# Altium schematic symbol library TIDA_00620.SchLib: 58 symbols (part 1 of 5)
Pins are listed as number, name and electrical type; pins without a type are passive.

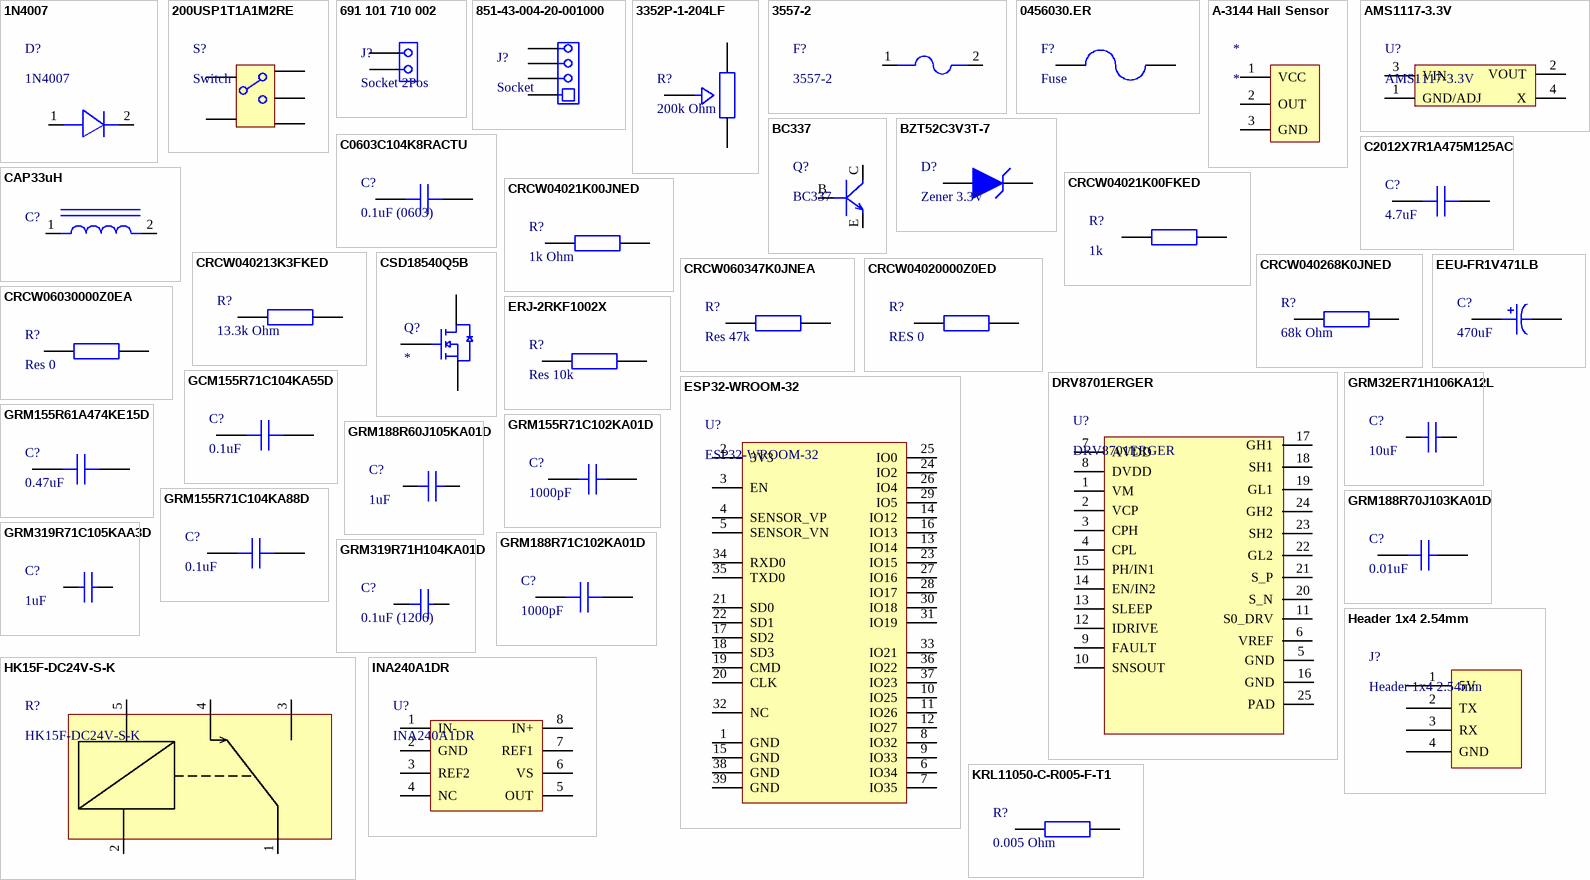
[diagram p0: symbols 1N4007 to KRL11050-C-R005-F-T1]

## 1N4007
designator D?
Rectifier Diode, 1 Phase, 1 Element, 1A, 1000V V(RRM), Silicon, DO-204AC; Manufacturer: Diotec; Manufacturer Lifecycle Status: ACTIVE; Value: 15pF; Element Configuration: Single; Forward Voltage: 1V; Max Forward Surge Current (Ifsm): 30A; Max Junction Temperature (Tj): 175°C; Max Repetitive Reverse Voltage (Vrrm): 1kV; Max Surge Current: 27A; Number of Elements: 1; Peak Reverse Current: 5µA; Polarity: Standard; Reverse Recovery Time: 1.5µs; Supplier: Mouser; Supplier Part Number: 637-1N4007; Manufacturer Part Number: 1N4007; RoHS: Compliant; Category: Rectifier Diodes; Stock: 355273; Pricing: 1=0,13, 10=0,084, 50=0,084, 100=0,057, 1000=0,036, 10000=0,019 (USD); Case/Package: Axial; Forward Current: 1A; Height: 2.8mm; Harmonized Tariff Schedule (HTS) Code: 85411000; Lifecycle Status: Production; Max Operating Temperature: 175°C; Max Output current: 1A; Min Operating Temperature: -50°C; Mounting Technology: Axial; Pins: 2; Number of Terminals: 2; Peak Non-Repetitive Surge Current: 30A; REACH SVHC: Unknown; Reverse Standoff Voltage: 1kV; Reverse Voltage: 1kV; Weight: 300mg; ComponentLink1URL: https://datasheet.octopart.com:443/1N4007-Diotec-datasheet-180572013.pdf?src-supplier=IHS; ComponentLink1Description: https://datasheet.octopart.com:443/1N4007-Diotec-datasheet-180572013.pdf?src-supplier=IHS; ComponentLink2URL: https://datasheet.octopart.com:443/1N4007-Diotec-datasheet-180725457.pdf?src-supplier=IHS; ComponentLink2Description: https://datasheet.octopart.com:443/1N4007-Diotec-datasheet-180725457.pdf?src-supplier=IHS; ComponentLink3URL: https://datasheet.octopart.com:443/1N4007-Diotec-datasheet-182232370.pdf?src-supplier=IHS; ComponentLink3Description: https://datasheet.octopart.com:443/1N4007-Diotec-datasheet-182232370.pdf?src-supplier=IHS; ComponentLink4URL: https://datasheet.octopart.com:443/1N4007-Diotec-datasheet-180570705.pdf?src-supplier=IHS; ComponentLink4Description: https://datasheet.octopart.com:443/1N4007-Diotec-datasheet-180570705.pdf?src-supplier=IHS; ComponentLink5URL: https://datasheet.octopart.com:443/1N4007-Diotec-datasheet-62346875.pdf?src-supplier=Burklin+Elektronik; ComponentLink5Description: https://datasheet.octopart.com:443/1N4007-Diotec-datasheet-62346875.pdf?src-supplier=Burklin+Elektronik; ComponentLink6URL: https://datasheet.octopart.com:443/1N4007-Diotec-datasheet-168809440.pdf?src-supplier=Diotec; ComponentLink6Description: https://datasheet.octopart.com:443/1N4007-Diotec-datasheet-168809440.pdf?src-supplier=Diotec; ComponentLink7URL: https://datasheet.octopart.com:443/1N4007-Diotec-datasheet-114842631.pdf?src-supplier=SOS+electronic; ComponentLink7Description: https://datasheet.octopart.com:443/1N4007-Diotec-datasheet-114842631.pdf?src-supplier=SOS+electronic; ComponentLink8URL: https://datasheet.octopart.com:443/1N4007-Galaxy-Semiconductor-datasheet-20771558.pdf?src-supplier=TME; ComponentLink8Description: https://datasheet.octopart.com:443/1N4007-Galaxy-Semiconductor-datasheet-20771558.pdf?src-supplier=TME; ComponentLink9URL: https://datasheet.octopart.com:443/1N4007-Diotec-datasheet-118605333.pdf?src-supplier=TME; ComponentLink9Description: https://datasheet.octopart.com:443/1N4007-Diotec-datasheet-118605333.pdf?src-supplier=TME; ComponentLink10URL: https://datasheet.octopart.com:443/1N4007-Diotec-datasheet-159114366.pdf?src-supplier=TME; ComponentLink10Description: https://datasheet.octopart.com:443/1N4007-Diotec-datasheet-159114366.pdf?src-supplier=TME; ComponentLink11URL: https://datasheet.octopart.com:443/1N4007-Diotec-datasheet-189099566.pdf?src-supplier=Master+Electronics; ComponentLink11Description: https://datasheet.octopart.com:443/1N4007-Diotec-datasheet-189099566.pdf?src-supplier=Master+Electronics
footprint 1N4007
pins: 1, 2

## 200USP1T1A1M2RE
designator S?, comment Switch
Switch Toggle ON None ON SPDT Round Lever PC Pins 20VAC 20VDC 0.4VA PC Mount; Manufacturer: E-Switch; Manufacturer Part Number: 200USP1T1A1M2RE; Actuator Length: 5.4102mm; Contact Current Rating: 20mA; Contact Resistance: 100mΩ; Contact Voltage Rating (AC): 20V; Electrical Life: 40kcycles; Illumination Type: Non-Illuminated; Insulation Resistance: 500MΩ; Number of Positions: 2; Ratings: Dust Tight, IP67, Waterproof; Sealable: IP67; Switch Function: On-On; Supplier: Mouser; Supplier Part Number: 612-200USP1T1A1M2RE; RoHS: Compliant; Category: Toggle Switches; Stock: 531; Pricing: 1=3,73, 10=3,22, 50=3,03, 100=2,63, 1000=2,47, 10000=2,38 (USD); Contact Material: Copper; Contact Plating: Gold; Height: 5.8mm; Length: 7mm; Lifecycle Status: Production; Max Current Rating: 20mA; Max Operating Temperature: 85°C; Max Voltage Rating (DC): 20V; Min Operating Temperature: -30°C; Mounting Technology: Through Hole; Packaging: Bulk; REACH SVHC: Yes; Termination: PC Pin; Throw Configuration: SPDT; Voltage Rating (AC): 20V; Voltage Rating (DC): 20V; ComponentLink1URL: https://datasheet.octopart.com:443/200USP1T1A1M2RE-E-Switch-datasheet-143500226.pdf?src-supplier=Future+Electronics; ComponentLink1Description: https://datasheet.octopart.com:443/200USP1T1A1M2RE-E-Switch-datasheet-143500226.pdf?src-supplier=Future+Electronics; ComponentLink2URL: https://datasheet.octopart.com:443/200USP1T1A1M2RE-E-Switch-datasheet-41351105.pdf?src-supplier=Future+Electronics; ComponentLink2Description: https://datasheet.octopart.com:443/200USP1T1A1M2RE-E-Switch-datasheet-41351105.pdf?src-supplier=Future+Electronics; ComponentLink3URL: https://datasheet.octopart.com:443/200USP1T1A1M2RE-E-Switch-datasheet-33408061.pdf?src-supplier=Master+Electronics; ComponentLink3Description: https://datasheet.octopart.com:443/200USP1T1A1M2RE-E-Switch-datasheet-33408061.pdf?src-supplier=Master+Electronics; ComponentLink4URL: https://datasheet.octopart.com:443/200USP1T1A1M2RE-E-Switch-datasheet-17722670.pdf?src-supplier=Factory+Futures; ComponentLink4Description: https://datasheet.octopart.com:443/200USP1T1A1M2RE-E-Switch-datasheet-17722670.pdf?src-supplier=Factory+Futures
footprint 200USP1T1A1M2RE (Switch, 7x4.5mm)
pins: 1, 3, 4, 5, 6

## 691 101 710 002
designator J?, comment Socket 2Pos
Conn Terminal Block 2 POS 5mm Solder ST Thru-Hole 16A Box; Manufacturer: Wurth Elektronik; Manufacturer Part Number: 691101710002; Number of Contacts: 2; Number of Levels: 1; Plating: Steel; Stripping Length: -7mm; Voltage: 250V; Wire/Cable Gauge: 26AWG; Wire Gauge (Min): 14AWG; Supplier: Mouser; Supplier Part Number: 710-691101710002; RoHS: Compliant; Category: Terminal Blocks; Stock: 2054; Pricing: 1=0,73, 10=0,657, 50=0,653, 100=0,653, 1000=0,653, 10000=0,653 (USD); Color: Blue; Contact Material: Brass; Contact Plating: Tin; Current: 16A; Current Rating: 16A; Height: 12.6mm; Housing Material: Nylon; Lead Pitch: 5mm; Length: 10mm; Max Operating Temperature: 105°C; Min Operating Temperature: -40°C; Mounting Technology: Through Hole; Pins: 2; Number of Positions Per Level: 2; Number of Rows: 1; Packaging: Box; Pitch: 5mm; Termination: Screw; Voltage Rating: 250V; Width: 11.2mm; Wire Gauge (Max): 26AWG; ComponentLink1URL: https://datasheet.octopart.com:443/691101710002-W%C3%BCrth-Elektronik-datasheet-117282612.pdf?src-supplier=Farnell; ComponentLink1Description: https://datasheet.octopart.com:443/691101710002-W%C3%BCrth-Elektronik-datasheet-117282612.pdf?src-supplier=Farnell; ComponentLink2URL: https://datasheet.octopart.com:443/691101710002-W%C3%BCrth-Elektronik-Midcom-datasheet-10621893.pdf?src-supplier=Farnell; ComponentLink2Description: https://datasheet.octopart.com:443/691101710002-W%C3%BCrth-Elektronik-Midcom-datasheet-10621893.pdf?src-supplier=Farnell; ComponentLink3URL: https://datasheet.octopart.com:443/691101710002-Wurth-Elektronik-datasheet-181965939.pdf?src-supplier=Wurth+Elektronik; ComponentLink3Description: https://datasheet.octopart.com:443/691101710002-Wurth-Elektronik-datasheet-181965939.pdf?src-supplier=Wurth+Elektronik; ComponentLink4URL: https://datasheet.octopart.com:443/691101710002-W%C3%BCrth-Elektronik-Midcom-datasheet-10468440.pdf?src-supplier=Newark; ComponentLink4Description: https://datasheet.octopart.com:443/691101710002-W%C3%BCrth-Elektronik-Midcom-datasheet-10468440.pdf?src-supplier=Newark; ComponentLink5URL: https://datasheet.octopart.com:443/691101710002-W%C3%BCrth-Elektronik-Midcom-datasheet-5404435.pdf?src-supplier=element14+APAC; ComponentLink5Description: https://datasheet.octopart.com:443/691101710002-W%C3%BCrth-Elektronik-Midcom-datasheet-5404435.pdf?src-supplier=element14+APAC; ComponentLink6URL: https://datasheet.octopart.com:443/691101710002-W%C3%BCrth-Elektronik-datasheet-111088173.pdf?src-supplier=RS+(Formerly+Allied+Electronics); ComponentLink6Description: https://datasheet.octopart.com:443/691101710002-W%C3%BCrth-Elektronik-datasheet-111088173.pdf?src-supplier=RS+(Formerly+Allied+Electronics)
footprint 691101710002
pins: 1, 2

## 851-43-004-20-001000
designator J?, comment Socket
Conn Socket Strip SKT 4 POS 1.27mm Solder RA Side Entry Thru-Hole; Manufacturer: Mill-Max; Manufacturer Part Number: 851-43-004-20-001000; Connector Type: Receptacle, Socket; Contact Resistance: 10mΩ; Current Rating: 3A; Dielectric Material: Polyamide; Max Voltage Rating (AC): 100V; Max Voltage Rating (DC): 150V; Number of Positions: 4; Plating Thickness: 762nm; Supplier: Mouser; Supplier Part Number: 575-8514300420001000; RoHS: Compliant; Category: Card Edge Connectors; Stock: 6128; Pricing: 1=2,6, 10=2,6, 50=2,58, 100=1,79, 1000=1,65, 10000=1,46 (USD); Case/Package: SIP; Color: Black; Contact Gender: Female; Contact Plating: Gold; Depth: 5.3mm; Housing Color: Black; Housing Material: Polychlorinated; Lead Free: Lead Free; Length: 5.46mm; Lifecycle Status: Production; Max Current Rating: 3A; Max Operating Temperature: 125°C; Min Operating Temperature: -55°C; Mounting Technology: Through Hole; Pins: 4; Number of Rows: 1; Orientation: Right Angle; Pitch: 1.27mm; REACH SVHC: No; Terminal Pitch: 1.27mm; Termination: Solder; ComponentLink1URL: https://datasheet.octopart.com:443/851-43-004-20-001000-Mill-Max-datasheet-155419451.pdf?src-supplier=IHS; ComponentLink1Description: https://datasheet.octopart.com:443/851-43-004-20-001000-Mill-Max-datasheet-155419451.pdf?src-supplier=IHS; ComponentLink2URL: https://datasheet.octopart.com:443/851-43-004-20-001000-Mill-Max-datasheet-87928065.pdf?src-supplier=element14+APAC; ComponentLink2Description: https://datasheet.octopart.com:443/851-43-004-20-001000-Mill-Max-datasheet-87928065.pdf?src-supplier=element14+APAC; ComponentLink3URL: https://datasheet.octopart.com:443/851-43-004-20-001000-Mill-Max-datasheet-21070645.pdf?src-supplier=Future+Electronics; ComponentLink3Description: https://datasheet.octopart.com:443/851-43-004-20-001000-Mill-Max-datasheet-21070645.pdf?src-supplier=Future+Electronics; ComponentLink4URL: https://datasheet.octopart.com:443/851-43-004-20-001000-Mill-Max-datasheet-26446851.pdf?src-supplier=Sager+Electronics; ComponentLink4Description: https://datasheet.octopart.com:443/851-43-004-20-001000-Mill-Max-datasheet-26446851.pdf?src-supplier=Sager+Electronics; ComponentLink5URL: https://datasheet.octopart.com:443/851-43-004-20-001000-Mill-Max-datasheet-11896331.pdf?src-supplier=Arrow+Electronics; ComponentLink5Description: https://datasheet.octopart.com:443/851-43-004-20-001000-Mill-Max-datasheet-11896331.pdf?src-supplier=Arrow+Electronics
footprint 851-43-004-20-001000
pins: 1, 2, 3, 4

## 3352P-1-204LF
designator R?, comment 200k Ohm
Res Cermet Trimmer 200K Ohm 20% 1/2W 1(Elec)/1(Mech)Turn (8.89 X 10.67 X 5.33mm) Pin Thru-Hole Bag; Manufacturer: Bourns; Manufacturer Part Number: 3352P-1-204LF; Lead Length: 4.75mm; Max Power Dissipation: 500mW; Number of Turns: 1; Value: 200kΩ; Temperature Coefficient: 100ppm/°C; Voltage Rating: 250V; Supplier: Avnet; Supplier Part Number: 3352P-1-204LF; RoHS: Compliant; Category: Variable Resistors and Potentiometers; Pricing: 500=1,54167, 1000=1,49838, 2000=1,45957, 4000=1,4282, 8000=1,4208 (USD); China RoHS: Non-Compliant; Color: Black; Composition: Cermet; Contact Plating: Tin; Diameter: 8.89mm; Height: 3.81mm; Lead Free: Lead Free; Length: 8.89mm; Lifecycle Status: Production; Max Operating Temperature: 125°C; Min Operating Temperature: -55°C; Mounting Technology: Through Hole; Number of Terminals: 3; Packaging: Bulk; Power Dissipation: 500mW; Power Rating: 500mW; REACH SVHC: Yes; Taper: Linear; Termination: Pin; Tolerance: 20%; Weight: 283.495231mg; Width: 8.89mm; Working Voltage: 250V; ComponentLink1URL: https://datasheet.octopart.com:443/3352P-1-204LF-Bourns-datasheet-182141424.pdf?src-supplier=IHS; ComponentLink1Description: https://datasheet.octopart.com:443/3352P-1-204LF-Bourns-datasheet-182141424.pdf?src-supplier=IHS; ComponentLink2URL: https://datasheet.octopart.com:443/3352P-1-204LF-Bourns-datasheet-154729576.pdf?src-supplier=Electro+Sonic; ComponentLink2Description: https://datasheet.octopart.com:443/3352P-1-204LF-Bourns-datasheet-154729576.pdf?src-supplier=Electro+Sonic; ComponentLink3URL: https://datasheet.octopart.com:443/3352P-1-204LF-Bourns-datasheet-25360171.pdf?src-supplier=Master+Electronics; ComponentLink3Description: https://datasheet.octopart.com:443/3352P-1-204LF-Bourns-datasheet-25360171.pdf?src-supplier=Master+Electronics; ComponentLink4URL: https://datasheet.octopart.com:443/3352P-1-204LF-Bourns-datasheet-3068.pdf?src-supplier=Mouser; ComponentLink4Description: https://datasheet.octopart.com:443/3352P-1-204LF-Bourns-datasheet-3068.pdf?src-supplier=Mouser; ComponentLink5URL: http://sigma.octopart.com:80/conflict_mineral_statement/Bourns-company-36.pdf?src-supplier=Compliance+Statements; ComponentLink5Description: http://sigma.octopart.com:80/conflict_mineral_statement/Bourns-company-36.pdf?src-supplier=Compliance+Statements
footprint 3352P-1-204LF
pins: 1, 2, 3

## 3557-2
designator F?
Auto blade fuse holder; insulated; for 5.2x0.64mm standard blade fuses; THT; Manufacturer: Keystone; Color: Black; Current Rating: 20A; Illumination Type: Illuminated; Material: Brass, Nylon, Tin; Number of Circuits: 1; Voltage: 500V; Supplier: Mouser; Supplier Part Number: 534-3557-2; Manufacturer Part Number: 3557-2; RoHS: Compliant; Category: Fuse Holders; Stock: 195065; Pricing: 1=1,11, 10=0,905, 50=0,81, 100=0,71, 1000=0,62, 10000=0,5 (USD); Contact Material: Brass; Contact Plating: Tin; Depth: 6.8mm; Flammability Rating: UL94 V-0; Fuse Current: 20A; Lead Free: Lead Free; Length: 19.8mm; Lifecycle Status: Production; Max Operating Temperature: 145°C; Min Operating Temperature: -50°C; Mounting Technology: PCB, Vertical; Number of Poles: 1; Orientation: Vertical; REACH SVHC: Yes; Termination: PC Pin; Voltage Rating (AC): 500V; ComponentLink1URL: https://datasheet.octopart.com:443/3557-2-Keystone-datasheet-65864754.pdf?src-supplier=Upverter; ComponentLink1Description: https://datasheet.octopart.com:443/3557-2-Keystone-datasheet-65864754.pdf?src-supplier=Upverter; ComponentLink2URL: https://datasheet.octopart.com:443/3557-2-Keystone-datasheet-15715937.pdf?src-supplier=element14+APAC; ComponentLink2Description: https://datasheet.octopart.com:443/3557-2-Keystone-datasheet-15715937.pdf?src-supplier=element14+APAC; ComponentLink3URL: https://datasheet.octopart.com:443/3557-2-Keystone-datasheet-14875920.pdf?src-supplier=element14+APAC; ComponentLink3Description: https://datasheet.octopart.com:443/3557-2-Keystone-datasheet-14875920.pdf?src-supplier=element14+APAC; ComponentLink4URL: https://datasheet.octopart.com:443/3557-2-Keystone-datasheet-96957.pdf?src-supplier=Future+Electronics; ComponentLink4Description: https://datasheet.octopart.com:443/3557-2-Keystone-datasheet-96957.pdf?src-supplier=Future+Electronics; ComponentLink5URL: https://datasheet.octopart.com:443/3557-2-Keystone-datasheet-110726872.pdf?src-supplier=Future+Electronics; ComponentLink5Description: https://datasheet.octopart.com:443/3557-2-Keystone-datasheet-110726872.pdf?src-supplier=Future+Electronics; ComponentLink6URL: https://datasheet.octopart.com:443/3557-2-Keystone-datasheet-14434305.pdf?src-supplier=Farnell; ComponentLink6Description: https://datasheet.octopart.com:443/3557-2-Keystone-datasheet-14434305.pdf?src-supplier=Farnell; ComponentLink7URL: https://datasheet.octopart.com:443/3557-2-Keystone-datasheet-137335478.pdf?src-supplier=Sager+Electronics; ComponentLink7Description: https://datasheet.octopart.com:443/3557-2-Keystone-datasheet-137335478.pdf?src-supplier=Sager+Electronics; ComponentLink8URL: https://datasheet.octopart.com:443/3557-2-Keystone-datasheet-21202850.pdf?src-supplier=Newark; ComponentLink8Description: https://datasheet.octopart.com:443/3557-2-Keystone-datasheet-21202850.pdf?src-supplier=Newark; ComponentLink9URL: https://datasheet.octopart.com:443/3557-2-Keystone-datasheet-10927198.pdf?src-supplier=RS+(Formerly+Allied+Electronics); ComponentLink9Description: https://datasheet.octopart.com:443/3557-2-Keystone-datasheet-10927198.pdf?src-supplier=RS+(Formerly+Allied+Electronics); ComponentLink10URL: https://datasheet.octopart.com:443/3557-2-Keystone-datasheet-10022419.pdf?src-supplier=RS+(Formerly+Allied+Electronics); ComponentLink10Description: https://datasheet.octopart.com:443/3557-2-Keystone-datasheet-10022419.pdf?src-supplier=RS+(Formerly+Allied+Electronics); ComponentLink11URL: https://datasheet.octopart.com:443/3557-2-Keystone-datasheet-17577438.pdf?src-supplier=TME; ComponentLink11Description: https://datasheet.octopart.com:443/3557-2-Keystone-datasheet-17577438.pdf?src-supplier=TME; ComponentLink12URL: https://datasheet.octopart.com:443/3557-2-Keystone-datasheet-188905221.pdf?src-supplier=TME; ComponentLink12Description: https://datasheet.octopart.com:443/3557-2-Keystone-datasheet-188905221.pdf?src-supplier=TME
footprint 3557-2
pins: 1, 2

## 0456030.ER
designator F?, comment Fuse
Fuse Chip 30A 125V SMD Solder Pad 10.1 X 3.12mm Ceramic T/R PSE/cULus; Manufacturer: Littelfuse; Manufacturer Part Number: 0456030.ER; Approvals: PSE, cULus; Value: 1.32mΩ; Time to Trip: 60s; Voltage Rating (DC): 32V; Supplier: Farnell; Supplier Part Number: 2688740; RoHS: Compliant; Category: Fuses; Stock: 2500; Pricing: 2500=2,55 (EUR); Body Material: Ceramic; Case/Package: SMD/SMT; China RoHS: Non-Compliant; Contact Plating: Silver; Current Rating: 30A; Depth: 3.12mm; Fuse Current: 30A; Height: 3.05mm; Housing Material: Ceramic; Lead Free: Lead Free; Length: 10.08mm; Lifecycle Status: Production; Max Operating Temperature: 125°C; Min Operating Temperature: -55°C; Mounting Technology: Surface Mount; Pins: 2; Packaging: Cut Tape; Radiation Hardening: No; REACH SVHC: No; Termination: SMD/SMT; Voltage Rating: 125V; Voltage Rating (AC): 125V; Width: 4.445mm; Working Voltage: 125V; ComponentLink1URL: https://datasheet.octopart.com:443/0456030.ER-Littelfuse-datasheet-180605949.pdf?src-supplier=IHS; ComponentLink1Description: https://datasheet.octopart.com:443/0456030.ER-Littelfuse-datasheet-180605949.pdf?src-supplier=IHS; ComponentLink2URL: https://datasheet.octopart.com:443/0456030.ER-Littelfuse-datasheet-138804099.pdf?src-supplier=ODG+(Origin+Data+Global); ComponentLink2Description: https://datasheet.octopart.com:443/0456030.ER-Littelfuse-datasheet-138804099.pdf?src-supplier=ODG+(Origin+Data+Global); ComponentLink3URL: https://datasheet.octopart.com:443/0456030.ER-Littelfuse-datasheet-10337701.pdf?src-supplier=Farnell; ComponentLink3Description: https://datasheet.octopart.com:443/0456030.ER-Littelfuse-datasheet-10337701.pdf?src-supplier=Farnell; ComponentLink4URL: https://datasheet.octopart.com:443/0456030.ER-Littelfuse-datasheet-8325777.pdf?src-supplier=Farnell; ComponentLink4Description: https://datasheet.octopart.com:443/0456030.ER-Littelfuse-datasheet-8325777.pdf?src-supplier=Farnell; ComponentLink5URL: https://datasheet.octopart.com:443/0456030.ER-Littelfuse-datasheet-81917029.pdf?src-supplier=Farnell; ComponentLink5Description: https://datasheet.octopart.com:443/0456030.ER-Littelfuse-datasheet-81917029.pdf?src-supplier=Farnell; ComponentLink6URL: https://datasheet.octopart.com:443/0456030.ER-Littelfuse-datasheet-32023458.pdf?src-supplier=Newark; ComponentLink6Description: https://datasheet.octopart.com:443/0456030.ER-Littelfuse-datasheet-32023458.pdf?src-supplier=Newark; ComponentLink7URL: https://datasheet.octopart.com:443/0456030.ER-Littelfuse-datasheet-8729545.pdf?src-supplier=element14+APAC; ComponentLink7Description: https://datasheet.octopart.com:443/0456030.ER-Littelfuse-datasheet-8729545.pdf?src-supplier=element14+APAC; ComponentLink8URL: https://datasheet.octopart.com:443/0456030.ER-Littelfuse-datasheet-5388488.pdf?src-supplier=element14+APAC; ComponentLink8Description: https://datasheet.octopart.com:443/0456030.ER-Littelfuse-datasheet-5388488.pdf?src-supplier=element14+APAC; ComponentLink9URL: https://datasheet.octopart.com:443/0456030.ER-Littelfuse-datasheet-183003502.pdf?src-supplier=Sager+Electronics; ComponentLink9Description: https://datasheet.octopart.com:443/0456030.ER-Littelfuse-datasheet-183003502.pdf?src-supplier=Sager+Electronics; ComponentLink10URL: https://datasheet.octopart.com:443/0456030.ER-Littelfuse-datasheet-184785029.pdf?src-supplier=Sager+Electronics; ComponentLink10Description: https://datasheet.octopart.com:443/0456030.ER-Littelfuse-datasheet-184785029.pdf?src-supplier=Sager+Electronics; ComponentLink11URL: https://datasheet.octopart.com:443/0456030.ER-Littelfuse-datasheet-178296269.pdf?src-supplier=Burklin+Elektronik; ComponentLink11Description: https://datasheet.octopart.com:443/0456030.ER-Littelfuse-datasheet-178296269.pdf?src-supplier=Burklin+Elektronik; ComponentLink12URL: https://datasheet.octopart.com:443/0456030.ER-Littelfuse-datasheet-170674128.pdf?src-supplier=Future+Electronics; ComponentLink12Description: https://datasheet.octopart.com:443/0456030.ER-Littelfuse-datasheet-170674128.pdf?src-supplier=Future+Electronics; ComponentLink13URL: https://datasheet.octopart.com:443/0456030.ER-Littelfuse-datasheet-43099236.pdf?src-supplier=RS+(Formerly+Allied+Electronics); ComponentLink13Description: https://datasheet.octopart.com:443/0456030.ER-Littelfuse-datasheet-43099236.pdf?src-supplier=RS+(Formerly+Allied+Electronics)
footprint 10.1x3.12mm - 0456030.ER
pins: 1, 2

## A-3144 Hall Sensor
designator *
footprint A-3144 (HALL SENSOR)
pins: 1 VCC, 2 OUT, 3 GND

## AMS1117-3.3V
designator U?
footprint SOT223 (SOT223, 4-Leads, Body 6,50x7,00mm (avg), Pitch 2,29mm, IPC Medium Density)
pins: 1 GND/ADJ, 2 VOUT, 3 VIN, 4 X

## BC337
designator Q?
Small Signal Bipolar Transistor, 0.8A I(C), 45V V(BR)CEO, 1-Element, NPN, Silicon, TO-92; Manufacturer: onsemi; Manufacturer Part Number: BC33725TA; Manufacturer Lifecycle Status: ACTIVE; Collector Emitter Saturation Voltage: 700mV; Element Configuration: Single; Emitter Base Voltage (VEBO): 5V; Frequency: 100MHz; hFE Min: 160; Max Collector Current: 800mA; Max Junction Temperature (Tj): 150°C; Max Power Dissipation: 625mW; Number of Elements: 1; Supplier: Future Electronics; Supplier Part Number: 5194590; RoHS: Compliant; Category: BJTs; Stock: 472000; Pricing: 2000=0,0373, 6000=0,0363, 10000=0,0359, 20000=0,0353, 40000=0,0344 (USD); Case/Package: TO-92; China RoHS: Compliant; Collector Emitter Breakdown Voltage: 45V; Collector Emitter Voltage (VCEO): 45V; Contact Plating: Tin; Gain Bandwidth Product: 100MHz; Height: 8.77mm; Lead Free: Lead Free; Length: 5.2mm; Lifecycle Status: Production; Max Breakdown Voltage: 45V; Clock Frequency: 100MHz; Max Operating Temperature: 150°C; Min Operating Temperature: -55°C; Mounting Technology: Through Hole; Pins: 3; Number of Terminals: 3; Polarity: NPN; Power Dissipation: 625mW; Radiation Hardening: No; REACH SVHC: Yes; Schedule B: 8541210080, 8541210080|8541210080, 8541210080|8541210080|8541210080, 8541210080|8541210080|8541210080|8541210080; Transition Frequency: 100MHz; Weight: 240mg; Width: 4.19mm; ComponentLink1URL: https://datasheet.octopart.com:443/BC33725TA-ON-Semiconductor-datasheet-137315713.pdf?src-supplier=JRH+Electronics; ComponentLink1Description: https://datasheet.octopart.com:443/BC33725TA-ON-Semiconductor-datasheet-137315713.pdf?src-supplier=JRH+Electronics; ComponentLink2URL: https://datasheet.octopart.com:443/BC33725TA-onsemi-datasheet-180957929.pdf?src-supplier=IHS; ComponentLink2Description: https://datasheet.octopart.com:443/BC33725TA-onsemi-datasheet-180957929.pdf?src-supplier=IHS; ComponentLink3URL: https://datasheet.octopart.com:443/BC33725TA-Fairchild-Semiconductor-datasheet-49270557.pdf?src-supplier=IHS; ComponentLink3Description: https://datasheet.octopart.com:443/BC33725TA-Fairchild-Semiconductor-datasheet-49270557.pdf?src-supplier=IHS; ComponentLink4URL: https://datasheet.octopart.com:443/BC33725TA-ON-Semiconductor-datasheet-13072.pdf?src-supplier=Fairchild+Semiconductor; ComponentLink4Description: https://datasheet.octopart.com:443/BC33725TA-ON-Semiconductor-datasheet-13072.pdf?src-supplier=Fairchild+Semiconductor; ComponentLink5URL: https://datasheet.octopart.com:443/BC33725TA-Fairchild-Semiconductor-datasheet-10379962.pdf?src-supplier=Fairchild+Semiconductor; ComponentLink5Description: https://datasheet.octopart.com:443/BC33725TA-Fairchild-Semiconductor-datasheet-10379962.pdf?src-supplier=Fairchild+Semiconductor; ComponentLink6URL: https://sigma.octopart.com:443/33035202/technical_drawing/Fairchild-Semiconductor-BC33725TA.pdf?src-supplier=Fairchild+Semiconductor; ComponentLink6Description: https://sigma.octopart.com:443/33035202/technical_drawing/Fairchild-Semiconductor-BC33725TA.pdf?src-supplier=Fairchild+Semiconductor; ComponentLink7URL: https://sigma.octopart.com:443/17343939/technical_drawing/Fairchild-Semiconductor-BC33725TA.pdf?src-supplier=Fairchild+Semiconductor; ComponentLink7Description: https://sigma.octopart.com:443/17343939/technical_drawing/Fairchild-Semiconductor-BC33725TA.pdf?src-supplier=Fairchild+Semiconductor; ComponentLink8URL: https://datasheet.octopart.com:443/BC33725TA-ON-Semiconductor-datasheet-8330525.pdf?src-supplier=onsemi; ComponentLink8Description: https://datasheet.octopart.com:443/BC33725TA-ON-Semiconductor-datasheet-8330525.pdf?src-supplier=onsemi; ComponentLink9URL: https://datasheet.octopart.com:443/BC33725TA-ON-Semiconductor-datasheet-498802.pdf?src-supplier=onsemi; ComponentLink9Description: https://datasheet.octopart.com:443/BC33725TA-ON-Semiconductor-datasheet-498802.pdf?src-supplier=onsemi; ComponentLink10URL: https://datasheet.octopart.com:443/BC33725TA-ON-Semiconductor-datasheet-86688491.pdf?src-supplier=onsemi; ComponentLink10Description: https://datasheet.octopart.com:443/BC33725TA-ON-Semiconductor-datasheet-86688491.pdf?src-supplier=onsemi; ComponentLink11URL: https://datasheet.octopart.com:443/BC33725TA-ON-Semiconductor-datasheet-94100688.pdf?src-supplier=element14+APAC; ComponentLink11Description: https://datasheet.octopart.com:443/BC33725TA-ON-Semiconductor-datasheet-94100688.pdf?src-supplier=element14+APAC; ComponentLink12URL: https://datasheet.octopart.com:443/BC33725TA-onsemi-datasheet-34433467.pdf?src-supplier=Farnell; ComponentLink12Description: https://datasheet.octopart.com:443/BC33725TA-onsemi-datasheet-34433467.pdf?src-supplier=Farnell; ComponentLink13URL: https://datasheet.octopart.com:443/BC33725TA-ON-Semiconductor-datasheet-86684068.pdf?src-supplier=Farnell; ComponentLink13Description: https://datasheet.octopart.com:443/BC33725TA-ON-Semiconductor-datasheet-86684068.pdf?src-supplier=Farnell; ComponentLink14URL: https://datasheet.octopart.com:443/BC33725TA-Fairchild-Semiconductor-datasheet-38327704.pdf?src-supplier=Farnell; ComponentLink14Description: https://datasheet.octopart.com:443/BC33725TA-Fairchild-Semiconductor-datasheet-38327704.pdf?src-supplier=Farnell; ComponentLink15URL: https://datasheet.octopart.com:443/BC33725TA-Fairchild-Semiconductor-datasheet-41473365.pdf?src-supplier=Farnell; ComponentLink15Description: https://datasheet.octopart.com:443/BC33725TA-Fairchild-Semiconductor-datasheet-41473365.pdf?src-supplier=Farnell; ComponentLink16URL: https://datasheet.octopart.com:443/BC33725TA-Fairchild-datasheet-7627855.pdf?src-supplier=Jameco; ComponentLink16Description: https://datasheet.octopart.com:443/BC33725TA-Fairchild-datasheet-7627855.pdf?src-supplier=Jameco; ComponentLink17URL: https://datasheet.octopart.com:443/BC33725TA-ON-Semiconductor-datasheet-147640423.pdf?src-supplier=Jameco; ComponentLink17Description: https://datasheet.octopart.com:443/BC33725TA-ON-Semiconductor-datasheet-147640423.pdf?src-supplier=Jameco; ComponentLink18URL: https://datasheet.octopart.com:443/BC33725TA-ON-Semiconductor-datasheet-44607075.pdf?src-supplier=Newark; ComponentLink18Description: https://datasheet.octopart.com:443/BC33725TA-ON-Semiconductor-datasheet-44607075.pdf?src-supplier=Newark; ComponentLink19URL: https://datasheet.octopart.com:443/BC33725TA-Fairchild-Semiconductor-datasheet-33192856.pdf?src-supplier=Newark; ComponentLink19Description: https://datasheet.octopart.com:443/BC33725TA-Fairchild-Semiconductor-datasheet-33192856.pdf?src-supplier=Newark; ComponentLink20URL: https://datasheet.octopart.com:443/BC33725TA-ON-Semiconductor-datasheet-81454738.pdf?src-supplier=TME; ComponentLink20Description: https://datasheet.octopart.com:443/BC33725TA-ON-Semiconductor-datasheet-81454738.pdf?src-supplier=TME; ComponentLink21URL: http://sigma.octopart.com:80/150605282/rohs_statement/ON-Semiconductor-BC33725TA.pdf?src-supplier=Compliance+Statements; ComponentLink21Description: http://sigma.octopart.com:80/150605282/rohs_statement/ON-Semiconductor-BC33725TA.pdf?src-supplier=Compliance+Statements; ComponentLink22URL: http://sigma.octopart.com:80/23426707/materials_sheet/Fairchild-Semiconductor-BC33725TA.pdf?src-supplier=Compliance+Statements; ComponentLink22Description: http://sigma.octopart.com:80/23426707/materials_sheet/Fairchild-Semiconductor-BC33725TA.pdf?src-supplier=Compliance+Statements; ComponentLink23URL: http://sigma.octopart.com:80/23426706/rohs_statement/Fairchild-Semiconductor-BC33725TA.pdf?src-supplier=Compliance+Statements; ComponentLink23Description: http://sigma.octopart.com:80/23426706/rohs_statement/Fairchild-Semiconductor-BC33725TA.pdf?src-supplier=Compliance+Statements; ComponentLink24URL: http://sigma.octopart.com:80/33052040/reach_statement/Fairchild-Semiconductor-BC33725TA.pdf?src-supplier=Compliance+Statements; ComponentLink24Description: http://sigma.octopart.com:80/33052040/reach_statement/Fairchild-Semiconductor-BC33725TA.pdf?src-supplier=Compliance+Statements; ComponentLink25URL: http://sigma.octopart.com:80/33052160/materials_sheet/Fairchild-Semiconductor-BC33725TA.pdf?src-supplier=Compliance+Statements; ComponentLink25Description: http://sigma.octopart.com:80/33052160/materials_sheet/Fairchild-Semiconductor-BC33725TA.pdf?src-supplier=Compliance+Statements; ComponentLink26URL: http://sigma.octopart.com:80/reach_statement/ON-Semiconductor-company-79.pdf?src-supplier=Compliance+Statements; ComponentLink26Description: http://sigma.octopart.com:80/reach_statement/ON-Semiconductor-company-79.pdf?src-supplier=Compliance+Statements; ComponentLink27URL: http://sigma.octopart.com:80/rohs_statement/Fairchild-Semiconductor-company-11.pdf?src-supplier=Compliance+Statements; ComponentLink27Description: http://sigma.octopart.com:80/rohs_statement/Fairchild-Semiconductor-company-11.pdf?src-supplier=Compliance+Statements; ComponentLink28URL: http://sigma.octopart.com:80/rohs_statement/Fairchild-Semiconductor-company-10.pdf?src-supplier=Compliance+Statements; ComponentLink28Description: http://sigma.octopart.com:80/rohs_statement/Fairchild-Semiconductor-company-10.pdf?src-supplier=Compliance+Statements; ComponentLink29URL: http://sigma.octopart.com:80/reach_statement/Fairchild-Semiconductor-company-9.pdf?src-supplier=Compliance+Statements; ComponentLink29Description: http://sigma.octopart.com:80/reach_statement/Fairchild-Semiconductor-company-9.pdf?src-supplier=Compliance+Statements; ComponentLink30URL: https://octopart.com:443/opatz8j6/c1?t=7tgkbhl7hNOlxvHAamqH0m269kpp9v6sGlRTOBaT6YYzEhLHvcWBeIWNMqzhK9FPZgl-AG_-qkbktRXwtanp--AFB2z5Yej5linCCK3okaZeH_qn_zjvbhtIYiaoQv1yV6MP79n_gTQ_S-gxxdk2XvXb2fzp_nw7FvZqj61EeKKpPXvGZsG0byaEmYTsEd1mEcWjFDLHcl11PSUDlHBHUFVg-qAVcNcD5KYPtuqcJCbrOVxmpG0ioK0vvHo8n0fScx4vCZ95bgvxAMgfLRrMo0yLNQdqFrCJfXJyZvuU3um222Lv7_8iKj3zKng7ZoQ4rVRgSg-F-_O3BVcDToBjHjyBtNGyDINbgkTQ&src-supplier=Compliance+Statements; ComponentLink30Description: https://octopart.com:443/opatz8j6/c1?t=7tgkbhl7hNOlxvHAamqH0m269kpp9v6sGlRTOBaT6YYzEhLHvcWBeIWNMqzhK9FPZgl-AG_-qkbktRXwtanp--AFB2z5Yej5linCCK3okaZeH_qn_zjvbhtIYiaoQv1yV6MP79n_gTQ_S-gxxdk2XvXb2fzp_nw7FvZqj61EeKKpPXvGZsG0byaEmYTsEd1mEcWjFDLHcl11PSUDlHBHUFVg-qAVcNcD5KYPtuqcJCbrOVxmpG0ioK0vvHo8n0fScx4vCZ95bgvxAMgfLRrMo0yLNQdqFrCJfXJyZvuU3um222Lv7_8iKj3zKng7ZoQ4rVRgSg-F-_O3BVcDToBjHjyBtNGyDINbgkTQ&src-supplier=Compliance+Statements; ComponentLink31URL: https://octopart.com:443/opatz8j6/c1?t=DgGuX_kL8AP-LdQEoY-gRP9PTloT94hhxKM2YdEaxOl8FGHS_zv2ZkydayasGw1YmBBlMCZlY4bKoiBWyvBUddEqcsTPjFVS2QZtk4GQF5ptMFUWJvApi1htCeSvZOrTKl36iUEfCU0GqwGxGi9_A0YgUCGuZ0ZYZwhfOZhc7Kcd2Va_E4xClJwhY6OdxEPu5b3YSjBTXFRfMrx_dG8gt7cYIFOv9W2YgN8xS8H7aXbrYgqsfjWK5lQCwPEC9eVHzi-q7-kgeRzPeyerPeCZvjlm4uBx7RbfE1Uw2dPaVjLg4Cx5JClPeS0fkHV_FO__Yf0RFH6_UrQyzMOPbf_qnsvkFbfXsTPLRL8T2g&src-supplier=Compliance+Statements; ComponentLink31Description: https://octopart.com:443/opatz8j6/c1?t=DgGuX_kL8AP-LdQEoY-gRP9PTloT94hhxKM2YdEaxOl8FGHS_zv2ZkydayasGw1YmBBlMCZlY4bKoiBWyvBUddEqcsTPjFVS2QZtk4GQF5ptMFUWJvApi1htCeSvZOrTKl36iUEfCU0GqwGxGi9_A0YgUCGuZ0ZYZwhfOZhc7Kcd2Va_E4xClJwhY6OdxEPu5b3YSjBTXFRfMrx_dG8gt7cYIFOv9W2YgN8xS8H7aXbrYgqsfjWK5lQCwPEC9eVHzi-q7-kgeRzPeyerPeCZvjlm4uBx7RbfE1Uw2dPaVjLg4Cx5JClPeS0fkHV_FO__Yf0RFH6_UrQyzMOPbf_qnsvkFbfXsTPLRL8T2g&src-supplier=Compliance+Statements
footprint BC337
pins: B, C, E

## BZT52C3V3T-7
designator D?, comment Zener 3.3V
BZT52C3V3T Series 300 mW 3.3 V 10 mA Surface Mount Zener Diode - SOD-523; Manufacturer: Diodes Inc.; Manufacturer Part Number: BZT52C3V3T-7; Element Configuration: Single; ESD Protection: No; Forward Voltage: 900mV; Impedance: 95Ω; Max Power Dissipation: 300mW; Max Reverse Leakage Current: 5µA; Number of Elements: 1; Polarity: Unidirectional; Reverse Standoff Voltage: 1V; Test Current: 5mA; Tolerance: 6%; Voltage Tolerance: 6.06%; Supplier: Future Electronics; Supplier Part Number: 4029532; RoHS: Compliant; Category: Zener Diodes; Stock: 3000; Pricing: 3000=0,0365, 9000=0,0356, 12000=0,0354, 30000=0,0346, 45000=0,0339 (USD); China RoHS: Compliant; Contact Plating: Tin; Height: 700µm; Lead Free: Lead Free; Length: 1.3mm; Lifecycle Status: Production; Max Operating Temperature: 150°C; Min Operating Temperature: -65°C; Mounting Technology: Surface Mount; Pins: 2; Number of Terminals: 2; Packaging: Cut Tape; Peak Reverse Current: 5µA; Power Rating: 300mW; REACH SVHC: Yes; Reference Voltage: 3.3V; Schedule B: 8541100050, 8541100050|8541100050|8541100050|8541100050|8541100050; Termination: SMD/SMT; Weight: 992.233309µg; Width: 900µm; Working Voltage: 3.3V; Zener Current: 5mA; Zener Voltage: 3.3V; ComponentLink1URL: https://datasheet.octopart.com:443/BZT52C3V3T-7-Diodes-Inc.-datasheet-101745785.pdf?src-supplier=Farnell; ComponentLink1Description: https://datasheet.octopart.com:443/BZT52C3V3T-7-Diodes-Inc.-datasheet-101745785.pdf?src-supplier=Farnell; ComponentLink2URL: https://datasheet.octopart.com:443/BZT52C3V3T-7-Diodes-Inc.-datasheet-10839642.pdf?src-supplier=RS+(Formerly+Allied+Electronics); ComponentLink2Description: https://datasheet.octopart.com:443/BZT52C3V3T-7-Diodes-Inc.-datasheet-10839642.pdf?src-supplier=RS+(Formerly+Allied+Electronics); ComponentLink3URL: https://datasheet.octopart.com:443/BZT52C3V3T-7-Diodes-Inc.-datasheet-8327885.pdf?src-supplier=Future+Electronics; ComponentLink3Description: https://datasheet.octopart.com:443/BZT52C3V3T-7-Diodes-Inc.-datasheet-8327885.pdf?src-supplier=Future+Electronics; ComponentLink4URL: https://datasheet.octopart.com:443/BZT52C3V3T-7-Diodes-Inc.-datasheet-12513818.pdf?src-supplier=Future+Electronics; ComponentLink4Description: https://datasheet.octopart.com:443/BZT52C3V3T-7-Diodes-Inc.-datasheet-12513818.pdf?src-supplier=Future+Electronics; ComponentLink5URL: https://datasheet.octopart.com:443/BZT52C3V3T-7-Diodes-Inc.-datasheet-10941054.pdf?src-supplier=Future+Electronics; ComponentLink5Description: https://datasheet.octopart.com:443/BZT52C3V3T-7-Diodes-Inc.-datasheet-10941054.pdf?src-supplier=Future+Electronics; ComponentLink6URL: https://datasheet.octopart.com:443/BZT52C3V3T-7-Diodes-Inc.-datasheet-10839781.pdf?src-supplier=Future+Electronics; ComponentLink6Description: https://datasheet.octopart.com:443/BZT52C3V3T-7-Diodes-Inc.-datasheet-10839781.pdf?src-supplier=Future+Electronics; ComponentLink7URL: https://datasheet.octopart.com:443/BZT52C3V3T-7-Diodes-Inc.-datasheet-10405015.pdf?src-supplier=Future+Electronics; ComponentLink7Description: https://datasheet.octopart.com:443/BZT52C3V3T-7-Diodes-Inc.-datasheet-10405015.pdf?src-supplier=Future+Electronics; ComponentLink8URL: https://datasheet.octopart.com:443/BZT52C3V3T-7-Diodes-Inc.-datasheet-5318325.pdf?src-supplier=Future+Electronics; ComponentLink8Description: https://datasheet.octopart.com:443/BZT52C3V3T-7-Diodes-Inc.-datasheet-5318325.pdf?src-supplier=Future+Electronics; ComponentLink9URL: https://datasheet.octopart.com:443/BZT52C3V3T-7-Diodes-Inc.-datasheet-78715741.pdf?src-supplier=Newark; ComponentLink9Description: https://datasheet.octopart.com:443/BZT52C3V3T-7-Diodes-Inc.-datasheet-78715741.pdf?src-supplier=Newark; ComponentLink10URL: https://datasheet.octopart.com:443/BZT52C3V3T-7-Diodes-Inc.-datasheet-102520276.pdf?src-supplier=TME; ComponentLink10Description: https://datasheet.octopart.com:443/BZT52C3V3T-7-Diodes-Inc.-datasheet-102520276.pdf?src-supplier=TME; ComponentLink11URL: https://sigma.octopart.com:443/138896155/technical_drawing/Diodes-Inc.-BZT52C3V3T-7.pdf?src-supplier=Diodes+Inc+SCT; ComponentLink11Description: https://sigma.octopart.com:443/138896155/technical_drawing/Diodes-Inc.-BZT52C3V3T-7.pdf?src-supplier=Diodes+Inc+SCT; ComponentLink12URL: https://datasheet.octopart.com:443/BZT52C3V3T-7-Diodes-Inc.-datasheet-14051187.pdf?src-supplier=iiiC; ComponentLink12Description: https://datasheet.octopart.com:443/BZT52C3V3T-7-Diodes-Inc.-datasheet-14051187.pdf?src-supplier=iiiC; ComponentLink13URL: http://sigma.octopart.com:80/15616908/materials_sheet/Diodes-Inc.-BZT52C3V3T-7.pdf?src-supplier=Compliance+Statements; ComponentLink13Description: http://sigma.octopart.com:80/15616908/materials_sheet/Diodes-Inc.-BZT52C3V3T-7.pdf?src-supplier=Compliance+Statements
footprint SOD-523 - BZT52C3V3T-7
pins: A, C

## C0603C104K8RACTU
designator C?, comment 0.1uF (0603)
100nF ±10% 10V X7R 0603 Multilayer Ceramic Capacitors MLCC - SMD/SMT RoHS; Manufacturer: KEMET; Manufacturer Part Number: C0603C104K8RACTU; Dissipation Factor: 5%; Temperature Coefficient: 30ppm/°C; Designed: Emre; Supplier: Farnell; Supplier Part Number: 2665559; RoHS: Compliant; Category: Ceramic Capacitors; Stock: 68000; Pricing: 4000=0,0182 (EUR); Value: 100nF; Case/Package: 0603; Case Code (Imperial): 0603; China RoHS: Compliant; Contact Plating: Tin; Depth: 800µm; Dielectric: X7R; Dielectric Material: Ceramic; Height: 800µm; Lead Free: Lead Free; Lead Pitch: 700µm; Length: 1.6mm; Lifecycle Status: Production; Material: Ceramic; Max Operating Temperature: 125°C; Min Operating Temperature: -55°C; Mounting Technology: Surface Mount; Pins: 2; Number of Terminals: 2; Packaging: Tape & Reel; Radiation Hardening: No; REACH SVHC: Yes; Schedule B: 8532240020, 8532240020|8532240020, 8532240020|8532240020|8532240020, 8532240020|8532240020|8532240020|8532240020; Termination: SMD/SMT; Thickness: 863.6µm; Tolerance: 10%; Voltage: 10V; Voltage Rating: 10V; Voltage Rating (DC): 10V; Width: 800µm; ComponentLink1URL: https://datasheet.octopart.com:443/C0603C104K8RAC7867-KEMET-datasheet-179096319.pdf?src-supplier=IHS; ComponentLink1Description: https://datasheet.octopart.com:443/C0603C104K8RAC7867-KEMET-datasheet-179096319.pdf?src-supplier=IHS; ComponentLink2URL: https://datasheet.octopart.com:443/C0603C104K8RACTU-KEMET-datasheet-178445679.pdf?src-supplier=IHS; ComponentLink2Description: https://datasheet.octopart.com:443/C0603C104K8RACTU-KEMET-datasheet-178445679.pdf?src-supplier=IHS; ComponentLink3URL: https://datasheet.octopart.com:443/C0603C104K8RACTU-KEMET-datasheet-137357759.pdf?src-supplier=Farnell; ComponentLink3Description: https://datasheet.octopart.com:443/C0603C104K8RACTU-KEMET-datasheet-137357759.pdf?src-supplier=Farnell; ComponentLink4URL: https://datasheet.octopart.com:443/C0603C104K8RACTU-KEMET-datasheet-149521868.pdf?src-supplier=Farnell; ComponentLink4Description: https://datasheet.octopart.com:443/C0603C104K8RACTU-KEMET-datasheet-149521868.pdf?src-supplier=Farnell; ComponentLink5URL: https://datasheet.octopart.com:443/C0603C104K8RACTU-KEMET-datasheet-101575656.pdf?src-supplier=Farnell; ComponentLink5Description: https://datasheet.octopart.com:443/C0603C104K8RACTU-KEMET-datasheet-101575656.pdf?src-supplier=Farnell; ComponentLink6URL: https://datasheet.octopart.com:443/C0603C104K8RACTU-KEMET-datasheet-137357764.pdf?src-supplier=Upverter; ComponentLink6Description: https://datasheet.octopart.com:443/C0603C104K8RACTU-KEMET-datasheet-137357764.pdf?src-supplier=Upverter; ComponentLink7URL: https://datasheet.octopart.com:443/C0603C104K8RAC7867-KEMET-datasheet-188512054.pdf?src-supplier=ODG+(Origin+Data+Global); ComponentLink7Description: https://datasheet.octopart.com:443/C0603C104K8RAC7867-KEMET-datasheet-188512054.pdf?src-supplier=ODG+(Origin+Data+Global); ComponentLink8URL: https://datasheet.octopart.com:443/C0603C104K8RACTU-Kemet-datasheet-32036385.pdf?src-supplier=Electro+Sonic; ComponentLink8Description: https://datasheet.octopart.com:443/C0603C104K8RACTU-Kemet-datasheet-32036385.pdf?src-supplier=Electro+Sonic; ComponentLink9URL: https://datasheet.octopart.com:443/C0603C104K8RACTU-KEMET-datasheet-157246124.pdf?src-supplier=Electro+Sonic; ComponentLink9Description: https://datasheet.octopart.com:443/C0603C104K8RACTU-KEMET-datasheet-157246124.pdf?src-supplier=Electro+Sonic; ComponentLink10URL: https://datasheet.octopart.com:443/C0603C104K8RACTU-Kemet-datasheet-12608295.pdf?src-supplier=element14+APAC; ComponentLink10Description: https://datasheet.octopart.com:443/C0603C104K8RACTU-Kemet-datasheet-12608295.pdf?src-supplier=element14+APAC; ComponentLink11URL: https://datasheet.octopart.com:443/C0603C104K8RACTU-Kemet-datasheet-11992184.pdf?src-supplier=element14+APAC; ComponentLink11Description: https://datasheet.octopart.com:443/C0603C104K8RACTU-Kemet-datasheet-11992184.pdf?src-supplier=element14+APAC; ComponentLink12URL: https://datasheet.octopart.com:443/C0603C104K8RACTU-Kemet-datasheet-10942409.pdf?src-supplier=element14+APAC; ComponentLink12Description: https://datasheet.octopart.com:443/C0603C104K8RACTU-Kemet-datasheet-10942409.pdf?src-supplier=element14+APAC; ComponentLink13URL: https://datasheet.octopart.com:443/C0603C104K8RACTU-Kemet-datasheet-10404442.pdf?src-supplier=element14+APAC; ComponentLink13Description: https://datasheet.octopart.com:443/C0603C104K8RACTU-Kemet-datasheet-10404442.pdf?src-supplier=element14+APAC; ComponentLink14URL: https://datasheet.octopart.com:443/C0603C104K8RACTU-Kemet-datasheet-21133259.pdf?src-supplier=element14+APAC; ComponentLink14Description: https://datasheet.octopart.com:443/C0603C104K8RACTU-Kemet-datasheet-21133259.pdf?src-supplier=element14+APAC; ComponentLink15URL: https://datasheet.octopart.com:443/C0603C104K8RACTU-Kemet-datasheet-41232427.pdf?src-supplier=element14+APAC; ComponentLink15Description: https://datasheet.octopart.com:443/C0603C104K8RACTU-Kemet-datasheet-41232427.pdf?src-supplier=element14+APAC; ComponentLink16URL: https://datasheet.octopart.com:443/C0603C104K8RACTU-Kemet-datasheet-5313890.pdf?src-supplier=element14; ComponentLink16Description: https://datasheet.octopart.com:443/C0603C104K8RACTU-Kemet-datasheet-5313890.pdf?src-supplier=element14; ComponentLink17URL: https://datasheet.octopart.com:443/C0603C104K8RACTU-KEMET-datasheet-176142238.pdf?src-supplier=Newark; ComponentLink17Description: https://datasheet.octopart.com:443/C0603C104K8RACTU-KEMET-datasheet-176142238.pdf?src-supplier=Newark; ComponentLink18URL: https://datasheet.octopart.com:443/C0603C104K8RACTU-Kemet-datasheet-27203261.pdf?src-supplier=Newark; ComponentLink18Description: https://datasheet.octopart.com:443/C0603C104K8RACTU-Kemet-datasheet-27203261.pdf?src-supplier=Newark; ComponentLink19URL: https://datasheet.octopart.com:443/C0603C104K8RACTU-KEMET-datasheet-164512540.pdf?src-supplier=TME; ComponentLink19Description: https://datasheet.octopart.com:443/C0603C104K8RACTU-KEMET-datasheet-164512540.pdf?src-supplier=TME; ComponentLink20URL: https://datasheet.octopart.com:443/C0603C104K8RACTU-KEMET-datasheet-96931493.pdf?src-supplier=TME; ComponentLink20Description: https://datasheet.octopart.com:443/C0603C104K8RACTU-KEMET-datasheet-96931493.pdf?src-supplier=TME; ComponentLink21URL: https://datasheet.octopart.com:443/C0603C104K8RACTU-KEMET-datasheet-68331906.pdf?src-supplier=TME; ComponentLink21Description: https://datasheet.octopart.com:443/C0603C104K8RACTU-KEMET-datasheet-68331906.pdf?src-supplier=TME; ComponentLink22URL: https://datasheet.octopart.com:443/C0603C104K8RACTU-KEMET-datasheet-110724412.pdf?src-supplier=RS+(Formerly+Allied+Electronics); ComponentLink22Description: https://datasheet.octopart.com:443/C0603C104K8RACTU-KEMET-datasheet-110724412.pdf?src-supplier=RS+(Formerly+Allied+Electronics); ComponentLink23URL: https://datasheet.octopart.com:443/C0603C104K8RACTU-Kemet-datasheet-464.pdf?src-supplier=RS+(Formerly+Allied+Electronics); ComponentLink23Description: https://datasheet.octopart.com:443/C0603C104K8RACTU-Kemet-datasheet-464.pdf?src-supplier=RS+(Formerly+Allied+Electronics); ComponentLink24URL: https://datasheet.octopart.com/C0603C104K8RACTU-KEMET-datasheet-84169754.pdf; ComponentLink24Description: https://datasheet.octopart.com/C0603C104K8RACTU-KEMET-datasheet-84169754.pdf; ComponentLink25URL: https://datasheet.octopart.com:443/C0603C104K8RAC-TU-Kemet-datasheet-8204392.pdf?src-supplier=Jameco; ComponentLink25Description: https://datasheet.octopart.com:443/C0603C104K8RAC-TU-Kemet-datasheet-8204392.pdf?src-supplier=Jameco
footprint CAP0603- C0603C104K8RACTU (Chip Capacitor, 2-Leads, Body 1,60x0,80mm, IPC Medium Density)
pins: 1, 2